# Altium schematic symbol library PCM2706.SchLib: 1 symbol
Pins are listed as number, name and electrical type; pins without a type are passive.

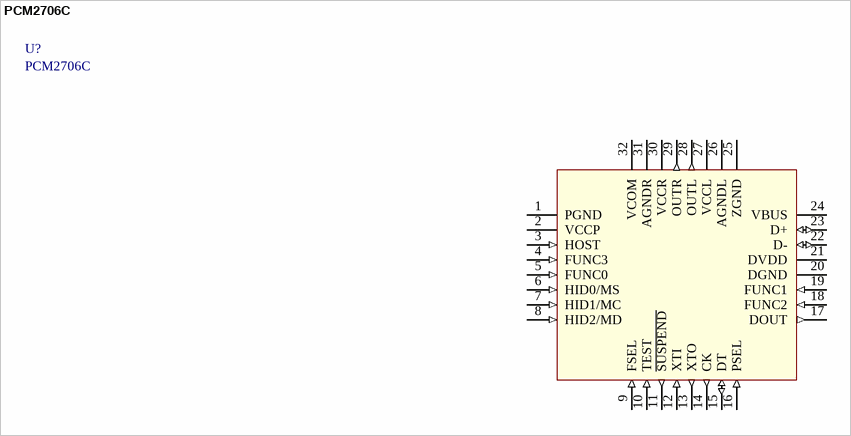
[diagram p0: symbol PCM2706C]

## PCM2706C
designator U?
Stereo Full Speed DAC with line-out & S/PDIF output, Bus/Self-powered (Ext. ROM Interface)
footprint STM-LQFP32_N (QFP, 32-Leads, Body 7x7mm, Pitch 0.8mm, IPC Medium Density)
pins: 1 PGND (power) "Analog ground for DAC, OSC, and PLL", 2 VCCP (power) "Analog power supply for DAC, OSC, and PLL", 3 HOST (in) "USB host detection", 4 FUNC3 (in), 5 FUNC0 (in), 6 HID0/MS (in), 7 HID1/MC (in), 8 HID2/MD (in), 9 FSEL (in), 10 TEST (in), 11 ~{SUSPEND} (out), 12 XTI (in), 13 XTO (out), 14 CK (out), 15 DT (io), 16 PSEL (in) "Power source select (low: self-power, high: bus-power)", 17 DOUT (out) "S/PDIF output/I2S data output", 18 FUNC2 (in), 19 FUNC1 (in), 20 DGND (power), 21 DVDD (power) "Digital power supply", 22 D- (io), 23 D+ (io), 24 VBUS (power), 25 ZGND (power), 26 AGNDL (power), 27 VCCL (power), 28 OUTL (out), 29 OUTR (out), 30 VCCR (power), 31 AGNDR (power), 32 VCOM